# EAGLE library part TC7W241 (library IC & Transistor)
SMD Dual 3-state buffer
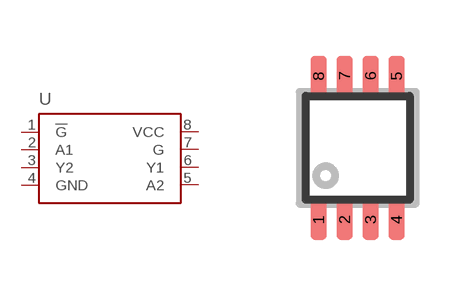
[diagram p59: symbol with the pads of SSOP-08N; footprint SSOP-08N]

Designator prefix -

## TC7W241_(SSOP-08) (CYTRON-PC: S-IC-TC7W241-SSOP8; DESC: S Dual 3-state buffer SSOP8; MF: TOSHIBA; MPN: TC7W241FU)  [SSOP-08N]
1  !G
2  A1
3  Y2
4  GND  pwr
5  A2
6  Y1
7  G
8  VCC  pwr

## Footprint SSOP-08N (pad centres in mm)
Shrink Small Outline Package (SSOP), 8 pins narrow Size: 2.9 x 2.8mm Lead Pitch: 0.65mm Created by: OoiBP
smd 0.4 x 1: 1 -0.975,-1.8; 2 -0.325,-1.8; 3 0.325,-1.8; 4 0.975,-1.8; 5 0.975,1.8; 6 0.325,1.8; 7 -0.325,1.8; 8 -0.975,1.8